# EAGLE library part DF17(*)-70DP-0.5V(57) (library Jack-connectors)
HIROSE DF17 series- 0,5 mm pitch, 70 pins board-to-board connector - Header This connectors are available in different heighst Total height Part number 4 mm DF17(1.0H)-70DP-0.5V(57) 5 mm, 6 mm DF17(2.0)-70DP-0.5V(57) 7 mm, 8 mm DF17(4.0)-70DP-0.5V(57) 5,5 mm, 6,5 mm DF17(2.5)-70DP-0.5V(57) !!!Warning!!! - Under connetor can't be placed any tracks or vias without resist, it could touch the connector contacts
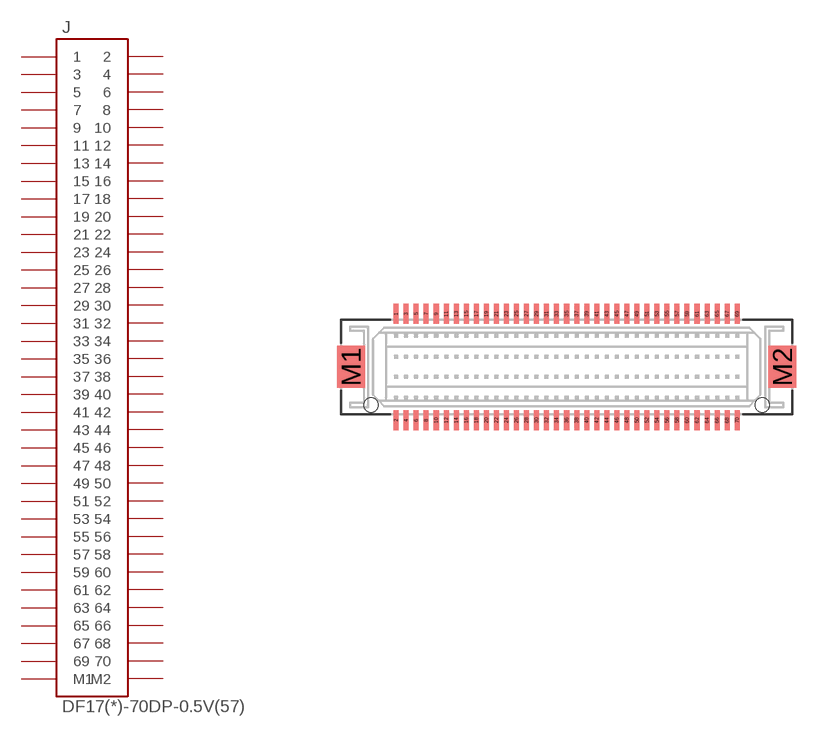
[diagram p1: symbol with the pads of DF17(XX)-70DP-0.5V; footprint DF17(XX)-70DP-0.5V]

Designator prefix J

## DF17(1.0H)-70DP-0.5V(57) (DESCRIPTION: Board-to-Board connector, 0.5 mm pitch, 70 pins, 4 mm height, header; PACK: DF17(XX)-70DP-0.5V), DF17(2.0)-70DP-0.5V(57) (DESCRIPTION: Board-to-Board connector, 0.5 mm pitch, 70 pins, 5/6 mm height, header; PACK: DF17(XX)-70DP-0.5V), DF17(2.5)-70DP-0.5V(57) (DESCRIPTION: Board-to-Board connector, 0.5 mm pitch, 70 pins, 5.5/6.5 mm height, header; PACK: DF17(XX)-70DP-0.5V), DF17(4.0)-70DP-0.5V(57) (DESCRIPTION: Board-to-Board connector, 0.5 mm pitch, 70 pins, 7/8 mm height, header; PACK: DF17(XX)-70DP-0.5V)  [DF17(XX)-70DP-0.5V]
1  1  pas
2  2  pas
3  3  pas
4  4  pas
5  5  pas
6  6  pas
7  7  pas
8  8  pas
9  9  pas
10  10  pas
11  11  pas
12  12  pas
13  13  pas
14  14  pas
15  15  pas
16  16  pas
17  17  pas
18  18  pas
19  19  pas
20  20  pas
21  21  pas
22  22  pas
23  23  pas
24  24  pas
25  25  pas
26  26  pas
27  27  pas
28  28  pas
29  29  pas
30  30  pas
31  31  pas
32  32  pas
33  33  pas
34  34  pas
35  35  pas
36  36  pas
37  37  pas
38  38  pas
39  39  pas
40  40  pas
41  41  pas
42  42  pas
43  43  pas
44  44  pas
45  45  pas
46  46  pas
47  47  pas
48  48  pas
49  49  pas
50  50  pas
51  51  pas
52  52  pas
53  53  pas
54  54  pas
55  55  pas
56  56  pas
57  57  pas
58  58  pas
59  59  pas
60  60  pas
61  61  pas
62  62  pas
63  63  pas
64  64  pas
65  65  pas
66  66  pas
67  67  pas
68  68  pas
69  69  pas
70  70  pas
M1  M1  pas
M2  M2  pas

## Footprint DF17(XX)-70DP-0.5V (pad centres in mm)
HIROSE DF17 series- 0,5 mm pitch, 70 pins board-to-board connector - Header This connectors are available in different heighst Total height Part number 4 mm DF17(1.0H)-70DP-0.5V(57) 5 mm, 6 mm DF17(2.0)-70DP-0.5V(57) 7 mm, 8 mm DF17(4.0)-70DP-0.5V(57) 5,5 mm, 6,5 mm DF17(2.5)-70DP-0.5V(57) !!!Warning!!! - Under connetor can't be placed any tracks or vias without resist, it could touch the connector contacts
smd 0.25 x 1: 1 -8.5,2.65; 2 -8.5,-2.65; 3 -8,2.65; 4 -8,-2.65; 5 -7.5,2.65; 6 -7.5,-2.65; 7 -7,2.65; 8 -7,-2.65; 9 -6.5,2.65; 10 -6.5,-2.65; 11 -6,2.65; 12 -6,-2.65; 13 -5.5,2.65; 14 -5.5,-2.65; 15 -5,2.65; 16 -5,-2.65; 17 -4.5,2.65; 18 -4.5,-2.65; 19 -4,2.65; 20 -4,-2.65; 21 -3.5,2.65; 22 -3.5,-2.65; 23 -3,2.65; 24 -3,-2.65; 25 -2.5,2.65; 26 -2.5,-2.65; 27 -2,2.65; 28 -2,-2.65; 29 -1.5,2.65; 30 -1.5,-2.65; 31 -1,2.65; 32 -1,-2.65; 33 -0.5,2.65; 34 -0.5,-2.65; 35 0,2.65; 36 0,-2.65; 37 0.5,2.65; 38 0.5,-2.65; 39 1,2.65; 40 1,-2.65; 41 1.5,2.65; 42 1.5,-2.65; 43 2,2.65; 44 2,-2.65; 45 2.5,2.65; 46 2.5,-2.65; 47 3,2.65; 48 3,-2.65; 49 3.5,2.65; 50 3.5,-2.65; 51 4,2.65; 52 4,-2.65; 53 4.5,2.65; 54 4.5,-2.65; 55 5,2.65; 56 5,-2.65; 57 5.5,2.65; 58 5.5,-2.65; 59 6,2.65; 60 6,-2.65; 61 6.5,2.65; 62 6.5,-2.65; 63 7,2.65; 64 7,-2.65; 65 7.5,2.65; 66 7.5,-2.65; 67 8,2.65; 68 8,-2.65; 69 8.5,2.65; 70 8.5,-2.65
smd 1.4 x 2.1: M1 -10.75,0; M2 10.75,0
hole 0.7 at -9.75,-1.9
hole 0.7 at 9.75,-1.9